# Altium schematic symbol library Diode.SchLib: 27 symbols
Pins are listed as number, name and electrical type; pins without a type are passive.

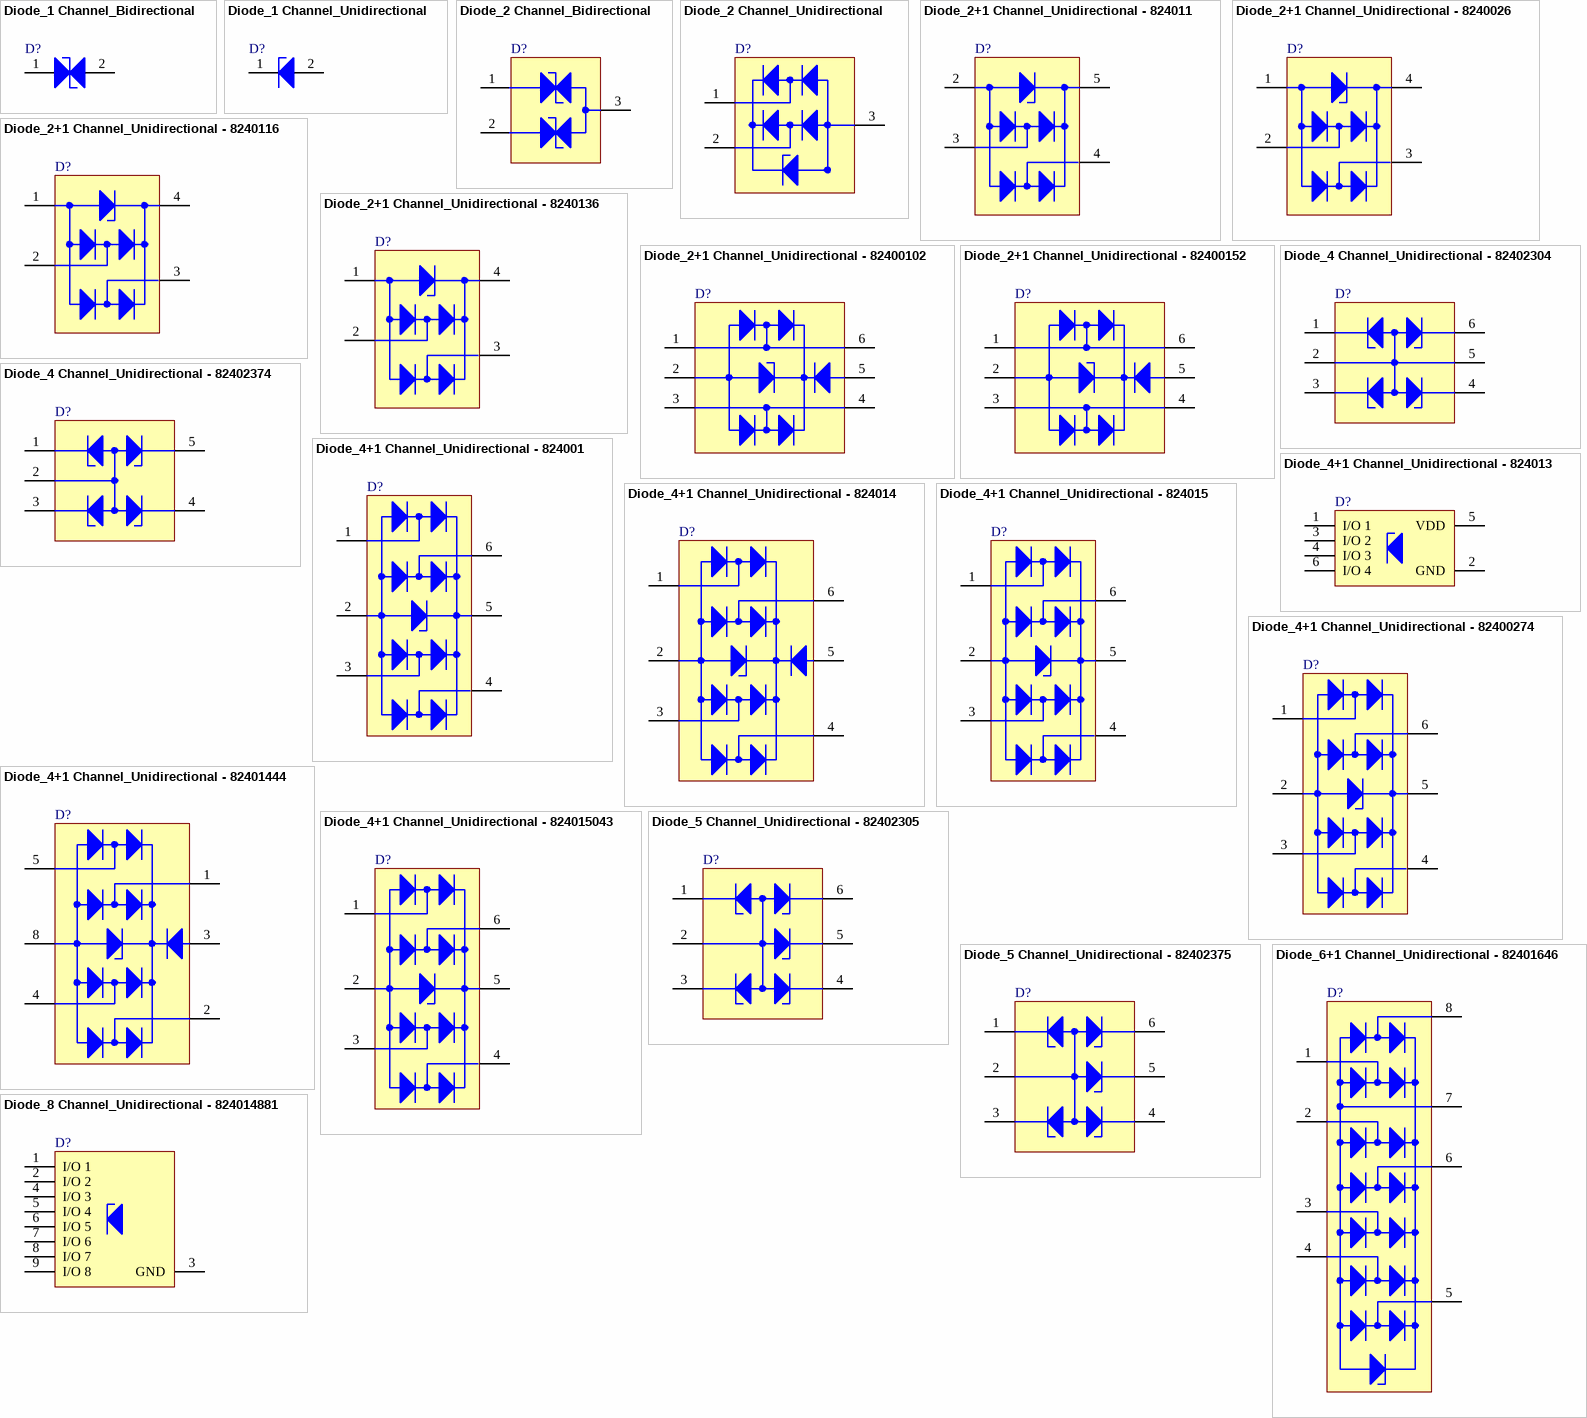
[diagram p0: symbols Diode_1 Channel_Bidirectional to Diode_8 Channel_Unidirectional - 824014881]

## Diode_1 Channel_Bidirectional
designator D?
pins: 1 I/O 1, 2 GND

## Diode_1 Channel_Unidirectional
designator D?
pins: 1 I/O 1, 2 GND

## Diode_2 Channel_Bidirectional
designator D?
pins: 1 I/O 1, 2 I/O 2, 3 GND

## Diode_2 Channel_Unidirectional
designator D?
pins: 1 I/O 1, 2 I/O 2, 3 GND

## Diode_2+1 Channel_Unidirectional - 824011
designator D?
pins: 2 GND, 3 I/O 1, 4 I/O 2, 5 VDD

## Diode_2+1 Channel_Unidirectional - 8240026
designator D?
pins: 1 GND, 2 I/O 1, 3 I/O 2, 4 VDD

## Diode_2+1 Channel_Unidirectional - 8240116
designator D?
pins: 1 GND, 2 I/O 1, 3 I/O 2, 4 VDD

## Diode_2+1 Channel_Unidirectional - 8240136
designator D?
pins: 1 GND, 2 I/O 1, 3 I/O 2, 4 VDD

## Diode_2+1 Channel_Unidirectional - 82400102
designator D?
pins: 1 I/O 1, 2 GND, 3 I/O 2, 4 I/O 2, 5 VDD, 6 I/O 1

## Diode_2+1 Channel_Unidirectional - 82400152
designator D?
pins: 1 I/O 1, 2 GND, 3 I/O 2, 4 I/O 2, 5 VDD, 6 I/O 1

## Diode_4 Channel_Unidirectional - 82402304
designator D?
pins: 1 I/O 1, 2 GND, 3 I/O 2, 4 I/O 3, 5 GND, 6 I/O 4

## Diode_4 Channel_Unidirectional - 82402374
designator D?
pins: 1 I/O 1, 2 GND, 3 I/O 2, 4 I/O 3, 5 I/O 4

## Diode_4+1 Channel_Unidirectional - 824001
designator D?
pins: 1 I/O 1, 2 GND, 3 I/O 2, 4 I/O 3, 5 VDD, 6 I/O 4

## Diode_4+1 Channel_Unidirectional - 824013
designator D?
pins: 1 I/O 1, 2 GND, 3 I/O 2, 4 I/O 3, 5 VDD, 6 I/O 4

## Diode_4+1 Channel_Unidirectional - 824014
designator D?
pins: 1 I/O 1, 2 GND, 3 I/O 2, 4 I/O 3, 5 VDD, 6 I/O 4

## Diode_4+1 Channel_Unidirectional - 824015
designator D?
pins: 1 I/O 1, 2 GND, 3 I/O 2, 4 I/O 3, 5 VDD, 6 I/O 4

## Diode_4+1 Channel_Unidirectional - 82400274
designator D?
pins: 1 I/O 1, 2 GND, 3 I/O 2, 4 I/O 3, 5 VDD, 6 I/O 4

## Diode_4+1 Channel_Unidirectional - 82401444
designator D?
pins: 1 I/O 1, 2 I/O 2, 3 VDD, 4 I/O 3, 5 I/O 4, 8 GND

## Diode_4+1 Channel_Unidirectional - 824015043
designator D?
pins: 1 I/O 1, 2 GND, 3 I/O 2, 4 I/O 3, 5 VDD, 6 I/O 4

## Diode_5 Channel_Unidirectional - 82402305
designator D?
pins: 1 I/O 1, 2 GND, 3 I/O 2, 4 I/O 3, 5 I/O 4, 6 I/O 5

## Diode_5 Channel_Unidirectional - 82402375
designator D?
pins: 1 I/O 1, 2 GND, 3 I/O 2, 4 I/O 3, 5 I/O 4, 6 I/O 5

## Diode_6+1 Channel_Unidirectional - 82401646
designator D?
pins: 1 I/O 1, 2 I/O 2, 3 I/O 3, 4 I/O 4, 5 I/O 5, 6 I/O 6, 7 GND, 8 VDD

## Diode_8 Channel_Unidirectional - 824014881
designator D?
pins: 1 I/O 1, 2 I/O 2, 3 GND, 4 I/O 3, 5 I/O 4, 6 I/O 5, 7 I/O 6, 8 I/O 7, 9 I/O 8

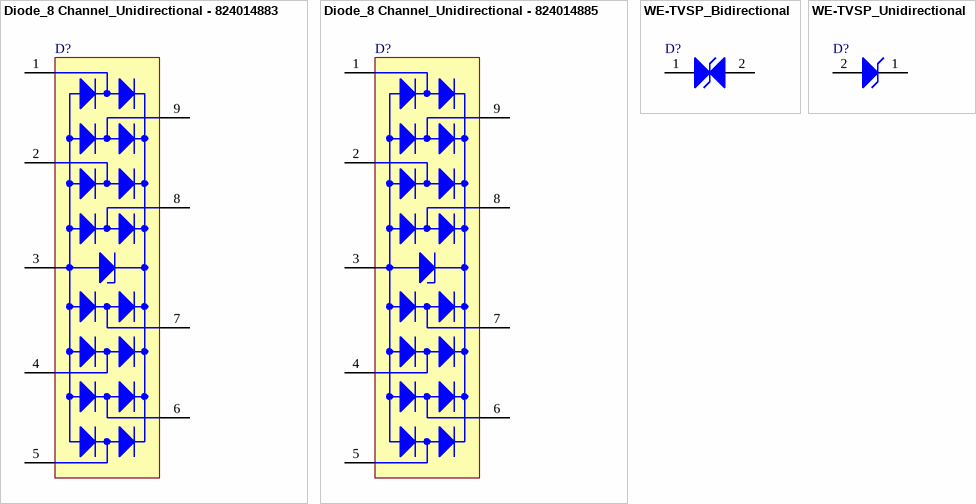
[diagram p1: symbols Diode_8 Channel_Unidirectional - 824014883 to WE-TVSP_Unidirectional]

## Diode_8 Channel_Unidirectional - 824014883
designator D?
pins: 1 I/O 1, 2 I/O 2, 3 GND, 4 I/O 3, 5 I/O 4, 6 I/O 5, 7 I/O 6, 8 I/O 7, 9 I/O 8

## Diode_8 Channel_Unidirectional - 824014885
designator D?
pins: 1 I/O 1, 2 I/O 2, 3 GND, 4 I/O 3, 5 I/O 4, 6 I/O 5, 7 I/O 6, 8 I/O 7, 9 I/O 8

## WE-TVSP_Bidirectional
designator D?
pins: 1, 2

## WE-TVSP_Unidirectional
designator D?
pins: 1 K, 2 A